# Altium integrated library TI Data Converters Digital to Analog Converter.IntLib: 1533 symbols (part 46 of 99)
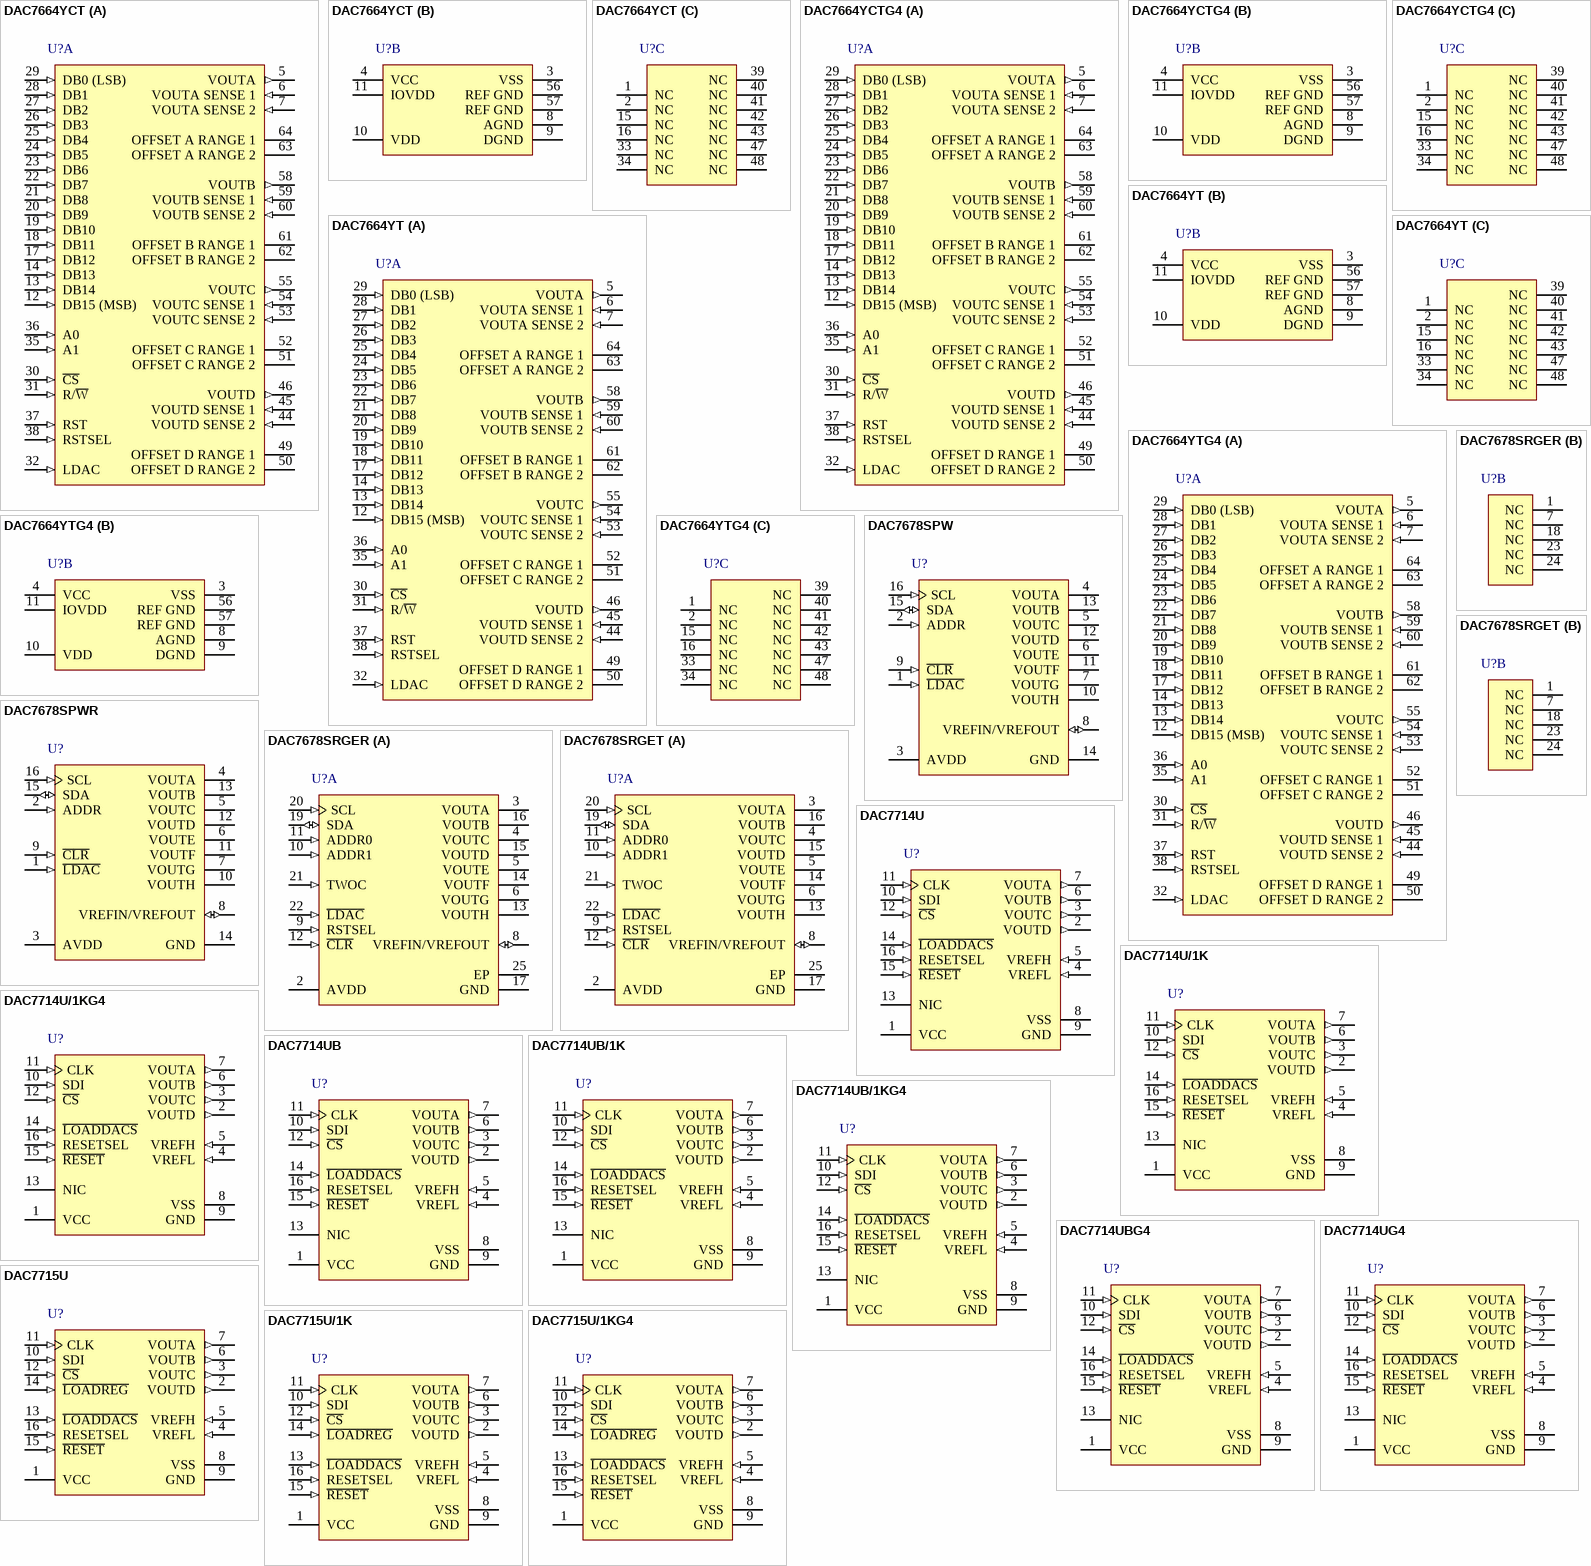
[diagram p118: symbols DAC7664YCT to DAC7715U/1KG4]

## DAC7715U
designator U?
Quad, Serial Input, 12-Bit, Voltage Output DAC, -40 to 85 degC, 16-pin SOIC (DW16), Green (RoHS & no Sb/Br); Manufacturer: Texas Instruments; PartNumber: DAC7715U; DAC Channels: 4; DNL(Max)(+/-LSB): 1; INL(Max)(+/-LSB): 2; Interface: Serial SPI; Power Consumption(Typ)(mW): 45; Resolution(Bits): 12; Settling Time(us): 8; SubFamily: Precision DAC (=<10MSPS); DatasheetVersion: SBAS140; PackageVersion: 4040000-2/G, 01/2011; PackageReference: DW16; PackageDescription: 16-Pin Plastic Small Outline, Body 10.30 x 7.50 mm, Pitch 1.27 mm; Supplier 1: Digi-Key; Supplier Part Number 1: DAC7715U-ND; Supplier 2: Farnell; Supplier Part Number 2: 1460223; Supplier 3: Mouser; Supplier Part Number 3: 595-DAC7715U; Eco-Plan: Green (RoHS & no Sb/Br); Mounting Technology: Surface Mount; Code_JEDEC: MS-013; ComponentLink1Description: Manufacturer URL; ComponentLink1URL: http://www.ti.com/; ComponentLink2Description: Datasheet; ComponentLink2URL: http://www.ti.com/general/docs/lit/getliterature.tsp?genericPartNumber=DAC7715&fileType=pdf; ComponentLink3Description: Package Specification; ComponentLink3URL: http://www.ti.com/litv/pdf/msoi003g
footprint TI-DW16_N (SOIC, 16-Leads, Body 10.3x7.5mm, Pitch 1.27mm, IPC Medium Density)
footprint TI-DW16_L (SOIC, 16-Leads, Body 10.3x7.5mm, Pitch 1.27mm, IPC High Density)
footprint TI-DW16_M (SOIC, 16-Leads, Body 10.3x7.5mm, Pitch 1.27mm, IPC Low Density)
pins: 1 VCC (power) "Positive Analog Supply Voltage, +15V nominal.", 2 VOUTD (out) "DAC D Voltage Output", 3 VOUTC (out) "DAC C Voltage Output", 4 VREFL (in) "Reference Input Voltage Low. Sets minimum output voltage for all DACs.", 5 VREFH (in) "Reference Input Voltage High. Sets maximum output voltage for all DACs.", 6 VOUTB (out) "DAC B Voltage Output", 7 VOUTA (out) "DAC A Voltage Output", 8 VSS (power) "Negative Analog Supply Voltage, 0V or -15V nominal.", 9 GND (power) "Ground", 10 SDI (in) "Serial Data Input", 11 CLK (in) "Serial Data Clock", 12 ~{CS} (in) "Chip Select Input", 13 ~{LOADDACS} (in) "All DAC registers become transparent when L\O\A\D\D\A\C\S\ is LOW. They are in the latched state when L\O\A\D\D\A\C\S\ is HIGH.", 14 ~{LOADREG} (in) "The selected input register becomes transparent when L\O\A\D\R\E\G\ is LOW. It is in the latched state when L\O\A\D\R\E\G\ is HIGH.", 15 ~{RESET} (in) "Asynchronous Reset Input. Sets DAC and input registers to either zero-scale (000H) or mid-scale (800H) when LOW. RESETSEL determines which code is active.", 16 RESETSEL (in) "When LOW, a LOW on R\E\S\E\T\ will cause the DAC and input registers to be set to code 000H. When RESETSEL is HIGH, a LOW on R\E\S\E\T\ will set the registers to code 800H."

## DAC7715U/1K
designator U?
Quad, Serial Input, 12-Bit, Voltage Output DAC, -40 to 85 degC, 16-pin SOIC (DW16), Green (RoHS & no Sb/Br); Manufacturer: Texas Instruments; PartNumber: DAC7715U/1K; DAC Channels: 4; DNL(Max)(+/-LSB): 1; INL(Max)(+/-LSB): 2; Interface: Serial SPI; Power Consumption(Typ)(mW): 45; Resolution(Bits): 12; Settling Time(us): 8; SubFamily: Precision DAC (=<10MSPS); DatasheetVersion: SBAS140; PackageVersion: 4040000-2/G, 01/2011; PackageReference: DW16; PackageDescription: 16-Pin Plastic Small Outline, Body 10.30 x 7.50 mm, Pitch 1.27 mm; Supplier 1: Digi-Key; Supplier Part Number 1: DAC7715U/1K-ND; Supplier 2: Mouser; Supplier Part Number 2: 595-DAC7715U/1K; Eco-Plan: Green (RoHS & no Sb/Br); Mounting Technology: Surface Mount; Code_JEDEC: MS-013; ComponentLink1Description: Manufacturer URL; ComponentLink1URL: http://www.ti.com/; ComponentLink2Description: Datasheet; ComponentLink2URL: http://www.ti.com/general/docs/lit/getliterature.tsp?genericPartNumber=DAC7715&fileType=pdf; ComponentLink3Description: Package Specification; ComponentLink3URL: http://www.ti.com/litv/pdf/msoi003g
footprint TI-DW16_N (SOIC, 16-Leads, Body 10.3x7.5mm, Pitch 1.27mm, IPC Medium Density)
footprint TI-DW16_L (SOIC, 16-Leads, Body 10.3x7.5mm, Pitch 1.27mm, IPC High Density)
footprint TI-DW16_M (SOIC, 16-Leads, Body 10.3x7.5mm, Pitch 1.27mm, IPC Low Density)
pins: 1 VCC (power) "Positive Analog Supply Voltage, +15V nominal.", 2 VOUTD (out) "DAC D Voltage Output", 3 VOUTC (out) "DAC C Voltage Output", 4 VREFL (in) "Reference Input Voltage Low. Sets minimum output voltage for all DACs.", 5 VREFH (in) "Reference Input Voltage High. Sets maximum output voltage for all DACs.", 6 VOUTB (out) "DAC B Voltage Output", 7 VOUTA (out) "DAC A Voltage Output", 8 VSS (power) "Negative Analog Supply Voltage, 0V or -15V nominal.", 9 GND (power) "Ground", 10 SDI (in) "Serial Data Input", 11 CLK (in) "Serial Data Clock", 12 ~{CS} (in) "Chip Select Input", 13 ~{LOADDACS} (in) "All DAC registers become transparent when L\O\A\D\D\A\C\S\ is LOW. They are in the latched state when L\O\A\D\D\A\C\S\ is HIGH.", 14 ~{LOADREG} (in) "The selected input register becomes transparent when L\O\A\D\R\E\G\ is LOW. It is in the latched state when L\O\A\D\R\E\G\ is HIGH.", 15 ~{RESET} (in) "Asynchronous Reset Input. Sets DAC and input registers to either zero-scale (000H) or mid-scale (800H) when LOW. RESETSEL determines which code is active.", 16 RESETSEL (in) "When LOW, a LOW on R\E\S\E\T\ will cause the DAC and input registers to be set to code 000H. When RESETSEL is HIGH, a LOW on R\E\S\E\T\ will set the registers to code 800H."

## DAC7715U/1KG4
designator U?
Quad, Serial Input, 12-Bit, Voltage Output DAC, -40 to 85 degC, 16-pin SOIC (DW16), Green (RoHS & no Sb/Br); Manufacturer: Texas Instruments; PartNumber: DAC7715U/1KG4; DAC Channels: 4; DNL(Max)(+/-LSB): 1; INL(Max)(+/-LSB): 2; Interface: Serial SPI; Power Consumption(Typ)(mW): 45; Resolution(Bits): 12; Settling Time(us): 8; SubFamily: Precision DAC (=<10MSPS); DatasheetVersion: SBAS140; PackageVersion: 4040000-2/G, 01/2011; PackageReference: DW16; PackageDescription: 16-Pin Plastic Small Outline, Body 10.30 x 7.50 mm, Pitch 1.27 mm; Supplier 1: Digi-Key; Supplier Part Number 1: DAC7715U/1KG4-ND; Supplier 2: Mouser; Supplier Part Number 2: 595-DAC7715U/1KG4; Eco-Plan: Green (RoHS & no Sb/Br); Mounting Technology: Surface Mount; Code_JEDEC: MS-013; ComponentLink1Description: Manufacturer URL; ComponentLink1URL: http://www.ti.com/; ComponentLink2Description: Datasheet; ComponentLink2URL: http://www.ti.com/general/docs/lit/getliterature.tsp?genericPartNumber=DAC7715&fileType=pdf; ComponentLink3Description: Package Specification; ComponentLink3URL: http://www.ti.com/litv/pdf/msoi003g
footprint TI-DW16_N (SOIC, 16-Leads, Body 10.3x7.5mm, Pitch 1.27mm, IPC Medium Density)
footprint TI-DW16_L (SOIC, 16-Leads, Body 10.3x7.5mm, Pitch 1.27mm, IPC High Density)
footprint TI-DW16_M (SOIC, 16-Leads, Body 10.3x7.5mm, Pitch 1.27mm, IPC Low Density)
pins: 1 VCC (power) "Positive Analog Supply Voltage, +15V nominal.", 2 VOUTD (out) "DAC D Voltage Output", 3 VOUTC (out) "DAC C Voltage Output", 4 VREFL (in) "Reference Input Voltage Low. Sets minimum output voltage for all DACs.", 5 VREFH (in) "Reference Input Voltage High. Sets maximum output voltage for all DACs.", 6 VOUTB (out) "DAC B Voltage Output", 7 VOUTA (out) "DAC A Voltage Output", 8 VSS (power) "Negative Analog Supply Voltage, 0V or -15V nominal.", 9 GND (power) "Ground", 10 SDI (in) "Serial Data Input", 11 CLK (in) "Serial Data Clock", 12 ~{CS} (in) "Chip Select Input", 13 ~{LOADDACS} (in) "All DAC registers become transparent when L\O\A\D\D\A\C\S\ is LOW. They are in the latched state when L\O\A\D\D\A\C\S\ is HIGH.", 14 ~{LOADREG} (in) "The selected input register becomes transparent when L\O\A\D\R\E\G\ is LOW. It is in the latched state when L\O\A\D\R\E\G\ is HIGH.", 15 ~{RESET} (in) "Asynchronous Reset Input. Sets DAC and input registers to either zero-scale (000H) or mid-scale (800H) when LOW. RESETSEL determines which code is active.", 16 RESETSEL (in) "When LOW, a LOW on R\E\S\E\T\ will cause the DAC and input registers to be set to code 000H. When RESETSEL is HIGH, a LOW on R\E\S\E\T\ will set the registers to code 800H."

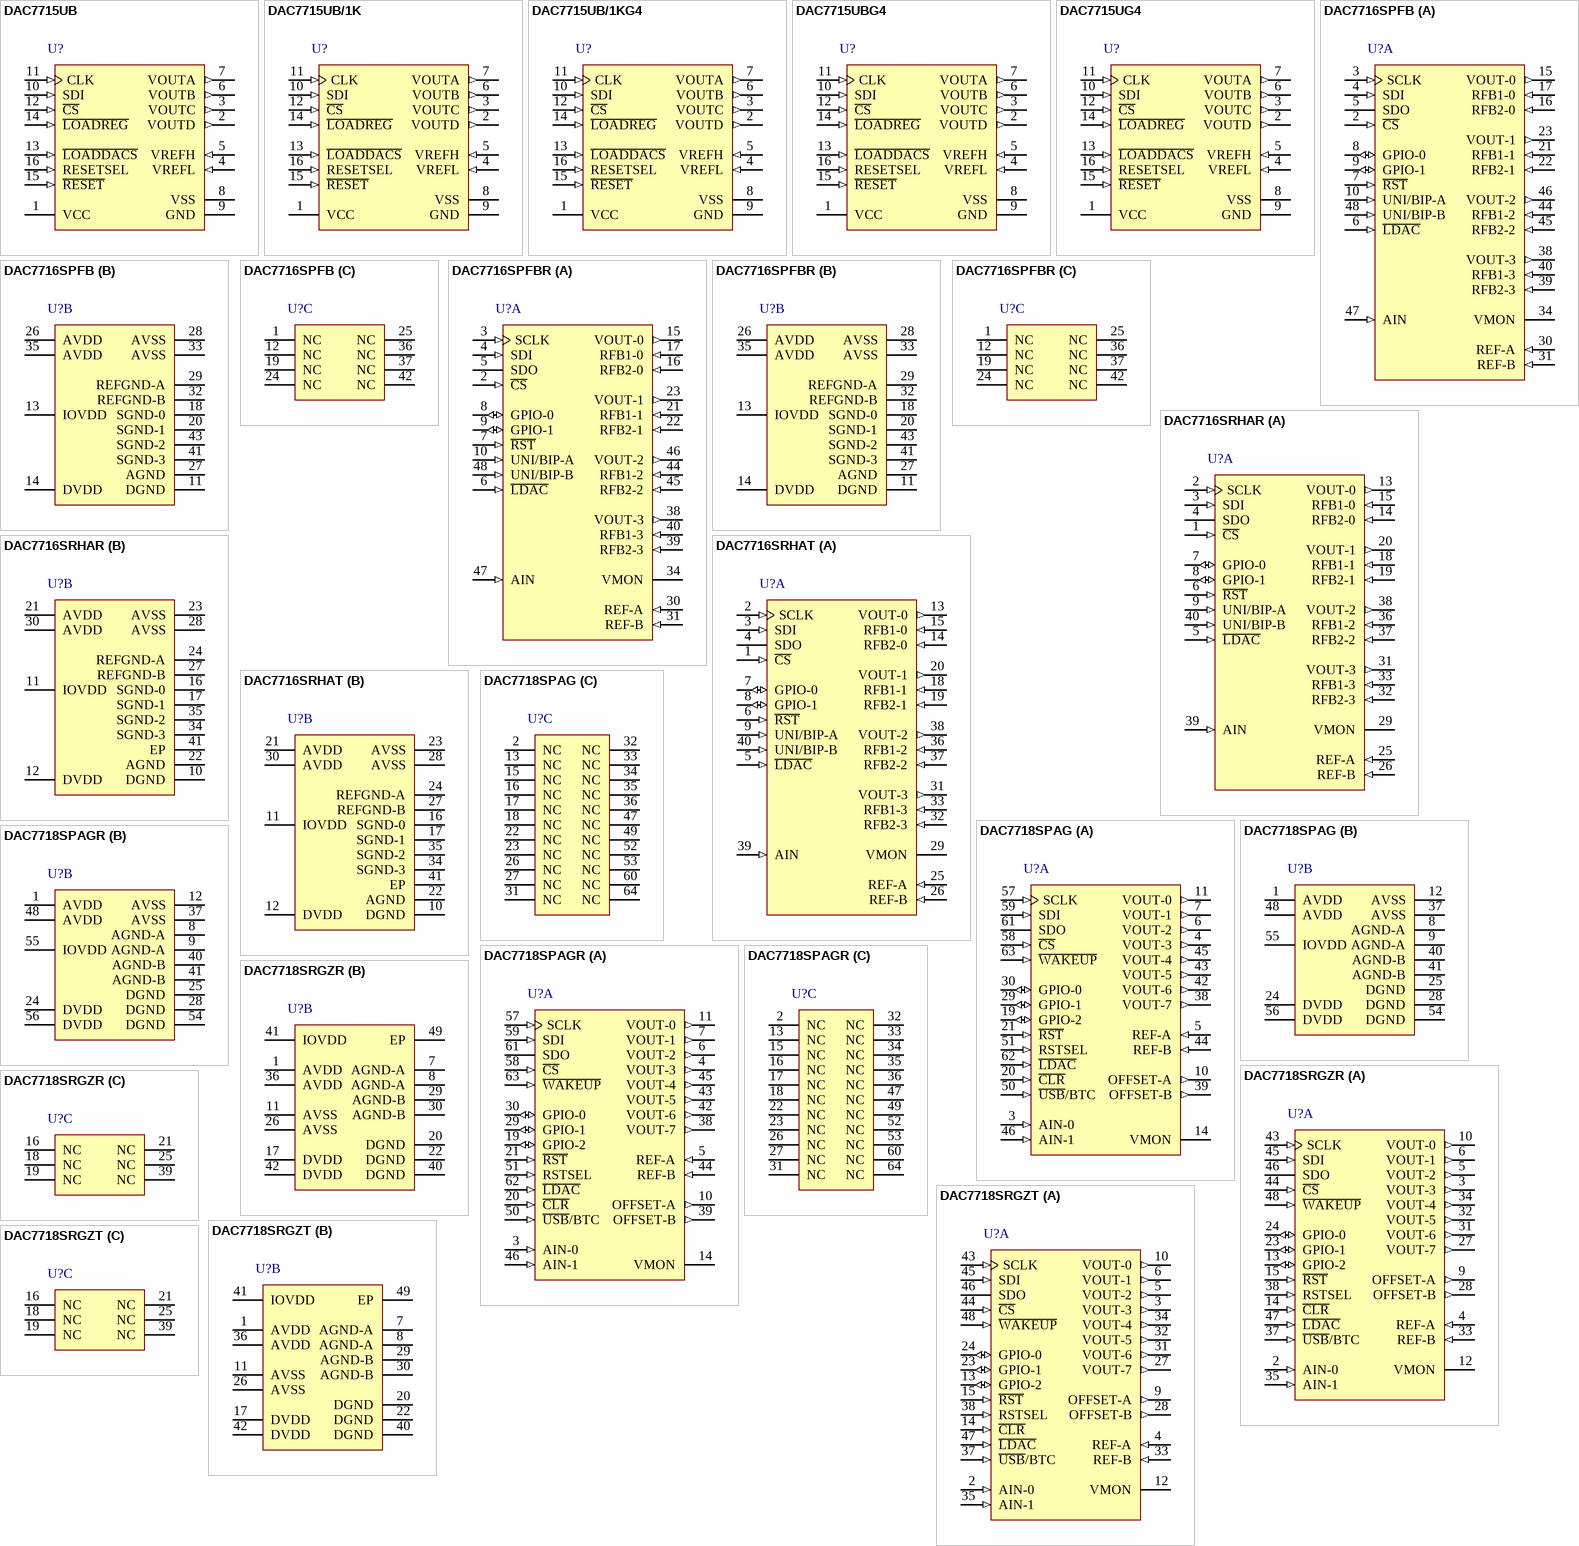
[diagram p35: symbols DAC7715UB to DAC7718SRGZT]

## DAC7715UB
designator U?
Quad, Serial Input, 12-Bit, Voltage Output DAC, -40 to 85 degC, 16-pin SOIC (DW16), Green (RoHS & no Sb/Br); Manufacturer: Texas Instruments; PartNumber: DAC7715UB; DAC Channels: 4; DNL(Max)(+/-LSB): 1; Interface: Serial SPI; Power Consumption(Typ)(mW): 45; Resolution(Bits): 12; Settling Time(us): 8; SubFamily: Precision DAC (=<10MSPS); DatasheetVersion: SBAS140; PackageVersion: 4040000-2/G, 01/2011; PackageReference: DW16; PackageDescription: 16-Pin Plastic Small Outline, Body 10.30 x 7.50 mm, Pitch 1.27 mm; Supplier 1: Digi-Key; Supplier Part Number 1: DAC7715UB-ND; Supplier 2: Farnell; Supplier Part Number 2: 1212274; Supplier 3: Mouser; Supplier Part Number 3: 595-DAC7715UB; Eco-Plan: Green (RoHS & no Sb/Br); INL(Max)(+/-LSB): 1; Mounting Technology: Surface Mount; Code_JEDEC: MS-013; ComponentLink1Description: Manufacturer URL; ComponentLink1URL: http://www.ti.com/; ComponentLink2Description: Datasheet; ComponentLink2URL: http://www.ti.com/general/docs/lit/getliterature.tsp?genericPartNumber=DAC7715&fileType=pdf; ComponentLink3Description: Package Specification; ComponentLink3URL: http://www.ti.com/litv/pdf/msoi003g
footprint TI-DW16_N (SOIC, 16-Leads, Body 10.3x7.5mm, Pitch 1.27mm, IPC Medium Density)
footprint TI-DW16_L (SOIC, 16-Leads, Body 10.3x7.5mm, Pitch 1.27mm, IPC High Density)
footprint TI-DW16_M (SOIC, 16-Leads, Body 10.3x7.5mm, Pitch 1.27mm, IPC Low Density)
pins: 1 VCC (power) "Positive Analog Supply Voltage, +15V nominal.", 2 VOUTD (out) "DAC D Voltage Output", 3 VOUTC (out) "DAC C Voltage Output", 4 VREFL (in) "Reference Input Voltage Low. Sets minimum output voltage for all DACs.", 5 VREFH (in) "Reference Input Voltage High. Sets maximum output voltage for all DACs.", 6 VOUTB (out) "DAC B Voltage Output", 7 VOUTA (out) "DAC A Voltage Output", 8 VSS (power) "Negative Analog Supply Voltage, 0V or -15V nominal.", 9 GND (power) "Ground", 10 SDI (in) "Serial Data Input", 11 CLK (in) "Serial Data Clock", 12 ~{CS} (in) "Chip Select Input", 13 ~{LOADDACS} (in) "All DAC registers become transparent when L\O\A\D\D\A\C\S\ is LOW. They are in the latched state when L\O\A\D\D\A\C\S\ is HIGH.", 14 ~{LOADREG} (in) "The selected input register becomes transparent when L\O\A\D\R\E\G\ is LOW. It is in the latched state when L\O\A\D\R\E\G\ is HIGH.", 15 ~{RESET} (in) "Asynchronous Reset Input. Sets DAC and input registers to either zero-scale (000H) or mid-scale (800H) when LOW. RESETSEL determines which code is active.", 16 RESETSEL (in) "When LOW, a LOW on R\E\S\E\T\ will cause the DAC and input registers to be set to code 000H. When RESETSEL is HIGH, a LOW on R\E\S\E\T\ will set the registers to code 800H."

## DAC7715UB/1K
designator U?
Quad, Serial Input, 12-Bit, Voltage Output DAC, -40 to 85 degC, 16-pin SOIC (DW16), Green (RoHS & no Sb/Br); Manufacturer: Texas Instruments; PartNumber: DAC7715UB/1K; DAC Channels: 4; DNL(Max)(+/-LSB): 1; Interface: Serial SPI; Power Consumption(Typ)(mW): 45; Resolution(Bits): 12; Settling Time(us): 8; SubFamily: Precision DAC (=<10MSPS); DatasheetVersion: SBAS140; PackageVersion: 4040000-2/G, 01/2011; PackageReference: DW16; PackageDescription: 16-Pin Plastic Small Outline, Body 10.30 x 7.50 mm, Pitch 1.27 mm; Supplier 1: Digi-Key; Supplier Part Number 1: DAC7715UB/1K-ND; Supplier 2: Mouser; Supplier Part Number 2: 595-DAC7715UB/1K; Eco-Plan: Green (RoHS & no Sb/Br); INL(Max)(+/-LSB): 1; Mounting Technology: Surface Mount; Code_JEDEC: MS-013; ComponentLink1Description: Manufacturer URL; ComponentLink1URL: http://www.ti.com/; ComponentLink2Description: Datasheet; ComponentLink2URL: http://www.ti.com/general/docs/lit/getliterature.tsp?genericPartNumber=DAC7715&fileType=pdf; ComponentLink3Description: Package Specification; ComponentLink3URL: http://www.ti.com/litv/pdf/msoi003g
footprint TI-DW16_N (SOIC, 16-Leads, Body 10.3x7.5mm, Pitch 1.27mm, IPC Medium Density)
footprint TI-DW16_L (SOIC, 16-Leads, Body 10.3x7.5mm, Pitch 1.27mm, IPC High Density)
footprint TI-DW16_M (SOIC, 16-Leads, Body 10.3x7.5mm, Pitch 1.27mm, IPC Low Density)
pins: 1 VCC (power) "Positive Analog Supply Voltage, +15V nominal.", 2 VOUTD (out) "DAC D Voltage Output", 3 VOUTC (out) "DAC C Voltage Output", 4 VREFL (in) "Reference Input Voltage Low. Sets minimum output voltage for all DACs.", 5 VREFH (in) "Reference Input Voltage High. Sets maximum output voltage for all DACs.", 6 VOUTB (out) "DAC B Voltage Output", 7 VOUTA (out) "DAC A Voltage Output", 8 VSS (power) "Negative Analog Supply Voltage, 0V or -15V nominal.", 9 GND (power) "Ground", 10 SDI (in) "Serial Data Input", 11 CLK (in) "Serial Data Clock", 12 ~{CS} (in) "Chip Select Input", 13 ~{LOADDACS} (in) "All DAC registers become transparent when L\O\A\D\D\A\C\S\ is LOW. They are in the latched state when L\O\A\D\D\A\C\S\ is HIGH.", 14 ~{LOADREG} (in) "The selected input register becomes transparent when L\O\A\D\R\E\G\ is LOW. It is in the latched state when L\O\A\D\R\E\G\ is HIGH.", 15 ~{RESET} (in) "Asynchronous Reset Input. Sets DAC and input registers to either zero-scale (000H) or mid-scale (800H) when LOW. RESETSEL determines which code is active.", 16 RESETSEL (in) "When LOW, a LOW on R\E\S\E\T\ will cause the DAC and input registers to be set to code 000H. When RESETSEL is HIGH, a LOW on R\E\S\E\T\ will set the registers to code 800H."

## DAC7715UB/1KG4
designator U?
Quad, Serial Input, 12-Bit, Voltage Output DAC, -40 to 85 degC, 16-pin SOIC (DW16), Green (RoHS & no Sb/Br); Manufacturer: Texas Instruments; PartNumber: DAC7715UB/1KG4; DAC Channels: 4; DNL(Max)(+/-LSB): 1; Interface: Serial SPI; Power Consumption(Typ)(mW): 45; Resolution(Bits): 12; Settling Time(us): 8; SubFamily: Precision DAC (=<10MSPS); DatasheetVersion: SBAS140; PackageVersion: 4040000-2/G, 01/2011; PackageReference: DW16; PackageDescription: 16-Pin Plastic Small Outline, Body 10.30 x 7.50 mm, Pitch 1.27 mm; Supplier 1: Digi-Key; Supplier Part Number 1: DAC7715UB/1KG4-ND; Supplier 2: Mouser; Supplier Part Number 2: 595-DAC7715UB/1KG4; Eco-Plan: Green (RoHS & no Sb/Br); INL(Max)(+/-LSB): 1; Mounting Technology: Surface Mount; Code_JEDEC: MS-013; ComponentLink1Description: Manufacturer URL; ComponentLink1URL: http://www.ti.com/; ComponentLink2Description: Datasheet; ComponentLink2URL: http://www.ti.com/general/docs/lit/getliterature.tsp?genericPartNumber=DAC7715&fileType=pdf; ComponentLink3Description: Package Specification; ComponentLink3URL: http://www.ti.com/litv/pdf/msoi003g
footprint TI-DW16_N (SOIC, 16-Leads, Body 10.3x7.5mm, Pitch 1.27mm, IPC Medium Density)
footprint TI-DW16_L (SOIC, 16-Leads, Body 10.3x7.5mm, Pitch 1.27mm, IPC High Density)
footprint TI-DW16_M (SOIC, 16-Leads, Body 10.3x7.5mm, Pitch 1.27mm, IPC Low Density)
pins: 1 VCC (power) "Positive Analog Supply Voltage, +15V nominal.", 2 VOUTD (out) "DAC D Voltage Output", 3 VOUTC (out) "DAC C Voltage Output", 4 VREFL (in) "Reference Input Voltage Low. Sets minimum output voltage for all DACs.", 5 VREFH (in) "Reference Input Voltage High. Sets maximum output voltage for all DACs.", 6 VOUTB (out) "DAC B Voltage Output", 7 VOUTA (out) "DAC A Voltage Output", 8 VSS (power) "Negative Analog Supply Voltage, 0V or -15V nominal.", 9 GND (power) "Ground", 10 SDI (in) "Serial Data Input", 11 CLK (in) "Serial Data Clock", 12 ~{CS} (in) "Chip Select Input", 13 ~{LOADDACS} (in) "All DAC registers become transparent when L\O\A\D\D\A\C\S\ is LOW. They are in the latched state when L\O\A\D\D\A\C\S\ is HIGH.", 14 ~{LOADREG} (in) "The selected input register becomes transparent when L\O\A\D\R\E\G\ is LOW. It is in the latched state when L\O\A\D\R\E\G\ is HIGH.", 15 ~{RESET} (in) "Asynchronous Reset Input. Sets DAC and input registers to either zero-scale (000H) or mid-scale (800H) when LOW. RESETSEL determines which code is active.", 16 RESETSEL (in) "When LOW, a LOW on R\E\S\E\T\ will cause the DAC and input registers to be set to code 000H. When RESETSEL is HIGH, a LOW on R\E\S\E\T\ will set the registers to code 800H."

## DAC7715UBG4
designator U?
Quad, Serial Input, 12-Bit, Voltage Output DAC, -40 to 85 degC, 16-pin SOIC (DW16), Green (RoHS & no Sb/Br); Manufacturer: Texas Instruments; PartNumber: DAC7715UBG4; DAC Channels: 4; DNL(Max)(+/-LSB): 1; Interface: Serial SPI; Power Consumption(Typ)(mW): 45; Resolution(Bits): 12; Settling Time(us): 8; SubFamily: Precision DAC (=<10MSPS); DatasheetVersion: SBAS140; PackageVersion: 4040000-2/G, 01/2011; PackageReference: DW16; PackageDescription: 16-Pin Plastic Small Outline, Body 10.30 x 7.50 mm, Pitch 1.27 mm; Supplier 1: Digi-Key; Supplier Part Number 1: DAC7715UBG4-ND; Supplier 2: Mouser; Supplier Part Number 2: 595-DAC7715UBG4; Eco-Plan: Green (RoHS & no Sb/Br); INL(Max)(+/-LSB): 1; Mounting Technology: Surface Mount; Code_JEDEC: MS-013; ComponentLink1Description: Manufacturer URL; ComponentLink1URL: http://www.ti.com/; ComponentLink2Description: Datasheet; ComponentLink2URL: http://www.ti.com/general/docs/lit/getliterature.tsp?genericPartNumber=DAC7715&fileType=pdf; ComponentLink3Description: Package Specification; ComponentLink3URL: http://www.ti.com/litv/pdf/msoi003g
footprint TI-DW16_N (SOIC, 16-Leads, Body 10.3x7.5mm, Pitch 1.27mm, IPC Medium Density)
footprint TI-DW16_L (SOIC, 16-Leads, Body 10.3x7.5mm, Pitch 1.27mm, IPC High Density)
footprint TI-DW16_M (SOIC, 16-Leads, Body 10.3x7.5mm, Pitch 1.27mm, IPC Low Density)
pins: 1 VCC (power) "Positive Analog Supply Voltage, +15V nominal.", 2 VOUTD (out) "DAC D Voltage Output", 3 VOUTC (out) "DAC C Voltage Output", 4 VREFL (in) "Reference Input Voltage Low. Sets minimum output voltage for all DACs.", 5 VREFH (in) "Reference Input Voltage High. Sets maximum output voltage for all DACs.", 6 VOUTB (out) "DAC B Voltage Output", 7 VOUTA (out) "DAC A Voltage Output", 8 VSS (power) "Negative Analog Supply Voltage, 0V or -15V nominal.", 9 GND (power) "Ground", 10 SDI (in) "Serial Data Input", 11 CLK (in) "Serial Data Clock", 12 ~{CS} (in) "Chip Select Input", 13 ~{LOADDACS} (in) "All DAC registers become transparent when L\O\A\D\D\A\C\S\ is LOW. They are in the latched state when L\O\A\D\D\A\C\S\ is HIGH.", 14 ~{LOADREG} (in) "The selected input register becomes transparent when L\O\A\D\R\E\G\ is LOW. It is in the latched state when L\O\A\D\R\E\G\ is HIGH.", 15 ~{RESET} (in) "Asynchronous Reset Input. Sets DAC and input registers to either zero-scale (000H) or mid-scale (800H) when LOW. RESETSEL determines which code is active.", 16 RESETSEL (in) "When LOW, a LOW on R\E\S\E\T\ will cause the DAC and input registers to be set to code 000H. When RESETSEL is HIGH, a LOW on R\E\S\E\T\ will set the registers to code 800H."

## DAC7715UG4
designator U?
Quad, Serial Input, 12-Bit, Voltage Output DAC, -40 to 85 degC, 16-pin SOIC (DW16), Green (RoHS & no Sb/Br); Manufacturer: Texas Instruments; PartNumber: DAC7715UG4; DAC Channels: 4; DNL(Max)(+/-LSB): 1; INL(Max)(+/-LSB): 2; Interface: Serial SPI; Power Consumption(Typ)(mW): 45; Resolution(Bits): 12; Settling Time(us): 8; SubFamily: Precision DAC (=<10MSPS); DatasheetVersion: SBAS140; PackageVersion: 4040000-2/G, 01/2011; PackageReference: DW16; PackageDescription: 16-Pin Plastic Small Outline, Body 10.30 x 7.50 mm, Pitch 1.27 mm; Supplier 1: Digi-Key; Supplier Part Number 1: DAC7715UG4-ND; Supplier 2: Mouser; Supplier Part Number 2: 595-DAC7715UG4; Eco-Plan: Green (RoHS & no Sb/Br); Mounting Technology: Surface Mount; Code_JEDEC: MS-013; ComponentLink1Description: Manufacturer URL; ComponentLink1URL: http://www.ti.com/; ComponentLink2Description: Datasheet; ComponentLink2URL: http://www.ti.com/general/docs/lit/getliterature.tsp?genericPartNumber=DAC7715&fileType=pdf; ComponentLink3Description: Package Specification; ComponentLink3URL: http://www.ti.com/litv/pdf/msoi003g
footprint TI-DW16_N (SOIC, 16-Leads, Body 10.3x7.5mm, Pitch 1.27mm, IPC Medium Density)
footprint TI-DW16_L (SOIC, 16-Leads, Body 10.3x7.5mm, Pitch 1.27mm, IPC High Density)
footprint TI-DW16_M (SOIC, 16-Leads, Body 10.3x7.5mm, Pitch 1.27mm, IPC Low Density)
pins: 1 VCC (power) "Positive Analog Supply Voltage, +15V nominal.", 2 VOUTD (out) "DAC D Voltage Output", 3 VOUTC (out) "DAC C Voltage Output", 4 VREFL (in) "Reference Input Voltage Low. Sets minimum output voltage for all DACs.", 5 VREFH (in) "Reference Input Voltage High. Sets maximum output voltage for all DACs.", 6 VOUTB (out) "DAC B Voltage Output", 7 VOUTA (out) "DAC A Voltage Output", 8 VSS (power) "Negative Analog Supply Voltage, 0V or -15V nominal.", 9 GND (power) "Ground", 10 SDI (in) "Serial Data Input", 11 CLK (in) "Serial Data Clock", 12 ~{CS} (in) "Chip Select Input", 13 ~{LOADDACS} (in) "All DAC registers become transparent when L\O\A\D\D\A\C\S\ is LOW. They are in the latched state when L\O\A\D\D\A\C\S\ is HIGH.", 14 ~{LOADREG} (in) "The selected input register becomes transparent when L\O\A\D\R\E\G\ is LOW. It is in the latched state when L\O\A\D\R\E\G\ is HIGH.", 15 ~{RESET} (in) "Asynchronous Reset Input. Sets DAC and input registers to either zero-scale (000H) or mid-scale (800H) when LOW. RESETSEL determines which code is active.", 16 RESETSEL (in) "When LOW, a LOW on R\E\S\E\T\ will cause the DAC and input registers to be set to code 000H. When RESETSEL is HIGH, a LOW on R\E\S\E\T\ will set the registers to code 800H."

## DAC7716SPFB
designator U?
Quad 12-Bit High Accuracy +/- 16.5 V Output Serial Input DAC, -40 to 105 degC, 48-pin QFP (PFB48), Green (RoHS & no Sb/Br); Manufacturer: Texas Instruments; PartNumber: DAC7716SPFB; DAC Channels: 4; DNL(Max)(+/-LSB): 1; Interface: Serial SPI; Power Consumption(Typ)(mW): 290; Resolution(Bits): 12; Settling Time(us): 6; SubFamily: Precision DAC (=<10MSPS); DatasheetVersion: SBAS463A; PackageVersion: 4073176/B, 10/1996; PackageReference: PFB48; PackageDescription: 48-Pin Plastic Flat Pack, Body 7 x 7 mm, Pitch 0.5 mm; Supplier 1: Digi-Key; Supplier Part Number 1: 296-25113-ND; Supplier 2: Mouser; Supplier Part Number 2: 595-DAC7716SPFB; Eco-Plan: Green (RoHS & no Sb/Br); INL(Max)(+/-LSB): 1; Mounting Technology: Surface Mount; Code_JEDEC: MS-026; ComponentLink1Description: Manufacturer URL; ComponentLink1URL: http://www.ti.com/; ComponentLink2Description: Datasheet; ComponentLink2URL: http://www.ti.com/general/docs/lit/getliterature.tsp?genericPartNumber=DAC7716&fileType=pdf; ComponentLink3Description: Package Specification; ComponentLink3URL: http://www.ti.com/lit/ml/mtqf019a/mtqf019a.pdf
footprint TI-PFB48_N (QFP, 48-Leads, Body 7x7mm, Pitch 0.5mm, IPC Medium Density)
footprint TI-PFB48_L (QFP, 48-Leads, Body 7x7mm, Pitch 0.5mm, IPC High Density)
footprint TI-PFB48_M (QFP, 48-Leads, Body 7x7mm, Pitch 0.5mm, IPC Low Density)
part A pins: 2 ~{CS} (in) "SPI bus chip select input (active low). Data are not clocked into the SPI shift register unless C\S\ is low. When C\S\ is high, SDO is in a high-impedance state.", 3 SCLK (in) "SPI bus clock", 4 SDI (in) "SPI bus input data", 5 SDO (hiz) "SPI output data", 6 ~{LDAC} (in) "Load DAC latch control input (active low). When L\D\A\C\ is low, the DAC latch is transparent and the contents of the Input Data Register are transferred to it. The DAC output changes to the corresponding level (See Datasheet)", 7 ~{RST} (in) "Reset input (active low). Logic low on this pin resets the input registers and DACs to the values defined by the UNI/BIP pins, and sets the Gain Register and Zero Register to default values.", 8 GPIO-0 (io) "General-purpose digital input/output 0. This pin is a bidirectional, digital input/output, and has an open-drain output. A 10kO pull-up resistor to IOVDD is needed when this pin is used as an output. See the GPIO Pins (See Datasheet)", 9 GPIO-1 (io) "General-purpose digital input/output 1. This pin is a bidirectional, digital input/output, and has an open-drain output. A 10kO pull-up resistor to IOVDD is needed when this pin is used as an output. See the GPIO Pins (See Datasheet)", 10 UNI/BIP-A (in) "Output mode selection of group A (DAC-0 and DAC-1). When UNI/BIP-A is tied to IOVDD, group A is in unipolar output mode; when tied to DGND, group A is in bipolar output mode. The input data written to the DAC are straight (See Datasheet)", 15 VOUT-0 (out) "DAC-0 output", 16 RFB2-0 (in) "DAC-0 RFB2 feedback", 17 RFB1-0 (in) "DAC-0 RFB1 feedback", 21 RFB1-1 (in) "DAC-1 RFB1 feedback", 22 RFB2-1 (in) "DAC-1 RFB2 feedback", 23 VOUT-1 (out) "DAC-1 output", 30 REF-A (in) "Group A (DAC-0, DAC-1) reference input", 31 REF-B (in) "Group B (DAC-2, DAC-3) reference input", 34 VMON (hiz) "Analog monitor output. This pin is either in Hi-Z status, or connected to one of the four DAC outputs or AIN, depending on the content of the Monitor Register.", 38 VOUT-3 (out) "DAC-3 output", 39 RFB2-3 (in) "DAC-3 RFB2 feedback", 40 RFB1-3 (in) "DAC-3 RFB1 feedback", 44 RFB1-2 (in) "DAC-2 RFB1 feedback", 45 RFB2-2 (in) "DAC-2 RFB2 feedback", 46 VOUT-2 (out) "DAC-2 output", 47 AIN (in) "Auxiliary analog input. Connected to the analog monitor mux.", 48 UNI/BIP-B (in) "Output mode selection of group B (DAC-2 and DAC-3). When UNI/BIP-A is tied to IOVDD, group B is in unipolar output mode; when tied to DGND, group B is in bipolar output mode. The input data written to the DAC are straight (See Datasheet)"
part B pins: 11 DGND (power) "Digital ground", 13 IOVDD (power) "Interface power", 14 DVDD (power) "Digital power", 18 SGND-0 (power) "DAC-0 signal ground. Connected to REFGND-A.", 20 SGND-1 (power) "DAC-1 signal ground. Connected to REFGND-A.", 26 AVDD (power) "Positive analog power supply", 27 AGND (power) "Analog ground", 28 AVSS (power) "Negative analog power supply", 29 REFGND-A (power) "Reference REF-A ground. Connect to AGND.", 32 REFGND-B (power) "Reference REF-B ground. Connect to AGND.", 33 AVSS (power) "Negative analog power supply", 35 AVDD (power) "Positive analog power supply", 41 SGND-3 (power) "DAC-3 signal ground. Connected to REFGND-B.", 43 SGND-2 (power) "DAC-2 signal ground. Connected to REFGND-B."
part C pins: 1 NC "Not connected", 12 NC "Not connected", 19 NC "Not connected", 24 NC "Not connected", 25 NC "Not connected", 36 NC "Not connected", 37 NC "Not connected", 42 NC "Not connected"

## DAC7716SPFBR
designator U?
Quad 12-Bit High Accuracy +/- 16.5 V Output Serial Input DAC, -40 to 105 degC, 48-pin QFP (PFB48), Green (RoHS & no Sb/Br); Manufacturer: Texas Instruments; PartNumber: DAC7716SPFBR; DAC Channels: 4; DNL(Max)(+/-LSB): 1; Interface: Serial SPI; Power Consumption(Typ)(mW): 290; Resolution(Bits): 12; Settling Time(us): 6; SubFamily: Precision DAC (=<10MSPS); DatasheetVersion: SBAS463A; PackageVersion: 4073176/B, 10/1996; PackageReference: PFB48; PackageDescription: 48-Pin Plastic Flat Pack, Body 7 x 7 mm, Pitch 0.5 mm; Supplier 1: Digi-Key; Supplier Part Number 1: DAC7716SPFBR-ND; Supplier 2: Newark; Supplier Part Number 2: 50R7649; Supplier 3: Mouser; Supplier Part Number 3: 595-DAC7716SPFBR; Eco-Plan: Green (RoHS & no Sb/Br); INL(Max)(+/-LSB): 1; Mounting Technology: Surface Mount; Code_JEDEC: MS-026; ComponentLink1Description: Manufacturer URL; ComponentLink1URL: http://www.ti.com/; ComponentLink2Description: Datasheet; ComponentLink2URL: http://www.ti.com/general/docs/lit/getliterature.tsp?genericPartNumber=DAC7716&fileType=pdf; ComponentLink3Description: Package Specification; ComponentLink3URL: http://www.ti.com/lit/ml/mtqf019a/mtqf019a.pdf
footprint TI-PFB48_N (QFP, 48-Leads, Body 7x7mm, Pitch 0.5mm, IPC Medium Density)
footprint TI-PFB48_L (QFP, 48-Leads, Body 7x7mm, Pitch 0.5mm, IPC High Density)
footprint TI-PFB48_M (QFP, 48-Leads, Body 7x7mm, Pitch 0.5mm, IPC Low Density)
part A pins: 2 ~{CS} (in) "SPI bus chip select input (active low). Data are not clocked into the SPI shift register unless C\S\ is low. When C\S\ is high, SDO is in a high-impedance state.", 3 SCLK (in) "SPI bus clock", 4 SDI (in) "SPI bus input data", 5 SDO (hiz) "SPI output data", 6 ~{LDAC} (in) "Load DAC latch control input (active low). When L\D\A\C\ is low, the DAC latch is transparent and the contents of the Input Data Register are transferred to it. The DAC output changes to the corresponding level (See Datasheet)", 7 ~{RST} (in) "Reset input (active low). Logic low on this pin resets the input registers and DACs to the values defined by the UNI/BIP pins, and sets the Gain Register and Zero Register to default values.", 8 GPIO-0 (io) "General-purpose digital input/output 0. This pin is a bidirectional, digital input/output, and has an open-drain output. A 10kO pull-up resistor to IOVDD is needed when this pin is used as an output. See the GPIO Pins (See Datasheet)", 9 GPIO-1 (io) "General-purpose digital input/output 1. This pin is a bidirectional, digital input/output, and has an open-drain output. A 10kO pull-up resistor to IOVDD is needed when this pin is used as an output. See the GPIO Pins (See Datasheet)", 10 UNI/BIP-A (in) "Output mode selection of group A (DAC-0 and DAC-1). When UNI/BIP-A is tied to IOVDD, group A is in unipolar output mode; when tied to DGND, group A is in bipolar output mode. The input data written to the DAC are straight (See Datasheet)", 15 VOUT-0 (out) "DAC-0 output", 16 RFB2-0 (in) "DAC-0 RFB2 feedback", 17 RFB1-0 (in) "DAC-0 RFB1 feedback", 21 RFB1-1 (in) "DAC-1 RFB1 feedback", 22 RFB2-1 (in) "DAC-1 RFB2 feedback", 23 VOUT-1 (out) "DAC-1 output", 30 REF-A (in) "Group A (DAC-0, DAC-1) reference input", 31 REF-B (in) "Group B (DAC-2, DAC-3) reference input", 34 VMON (hiz) "Analog monitor output. This pin is either in Hi-Z status, or connected to one of the four DAC outputs or AIN, depending on the content of the Monitor Register.", 38 VOUT-3 (out) "DAC-3 output", 39 RFB2-3 (in) "DAC-3 RFB2 feedback", 40 RFB1-3 (in) "DAC-3 RFB1 feedback", 44 RFB1-2 (in) "DAC-2 RFB1 feedback", 45 RFB2-2 (in) "DAC-2 RFB2 feedback", 46 VOUT-2 (out) "DAC-2 output", 47 AIN (in) "Auxiliary analog input. Connected to the analog monitor mux.", 48 UNI/BIP-B (in) "Output mode selection of group B (DAC-2 and DAC-3). When UNI/BIP-A is tied to IOVDD, group B is in unipolar output mode; when tied to DGND, group B is in bipolar output mode. The input data written to the DAC are straight (See Datasheet)"
part B pins: 11 DGND (power) "Digital ground", 13 IOVDD (power) "Interface power", 14 DVDD (power) "Digital power", 18 SGND-0 (power) "DAC-0 signal ground. Connected to REFGND-A.", 20 SGND-1 (power) "DAC-1 signal ground. Connected to REFGND-A.", 26 AVDD (power) "Positive analog power supply", 27 AGND (power) "Analog ground", 28 AVSS (power) "Negative analog power supply", 29 REFGND-A (power) "Reference REF-A ground. Connect to AGND.", 32 REFGND-B (power) "Reference REF-B ground. Connect to AGND.", 33 AVSS (power) "Negative analog power supply", 35 AVDD (power) "Positive analog power supply", 41 SGND-3 (power) "DAC-3 signal ground. Connected to REFGND-B.", 43 SGND-2 (power) "DAC-2 signal ground. Connected to REFGND-B."
part C pins: 1 NC "Not connected", 12 NC "Not connected", 19 NC "Not connected", 24 NC "Not connected", 25 NC "Not connected", 36 NC "Not connected", 37 NC "Not connected", 42 NC "Not connected"

## DAC7716SRHAR
designator U?
Quad 12-Bit High Accuracy +/- 16.5 V Output Serial Input DAC, -40 to 105 degC, 40-pin QFN (RHA40), Green (RoHS & no Sb/Br); Manufacturer: Texas Instruments; PartNumber: DAC7716SRHAR; DAC Channels: 4; DNL(Max)(+/-LSB): 1; Interface: Serial SPI; Power Consumption(Typ)(mW): 290; Resolution(Bits): 12; Settling Time(us): 6; SubFamily: Precision DAC (=<10MSPS); DatasheetVersion: SBAS463A; PackageVersion: 4204276/E, 06/2011; PackageReference: RHA40-4500X4500TP; PackageDescription: 40-Pin Plastic Quad Flatpack No-Lead, Body 6 x 6 mm, Pitch 0.5 mm; Supplier 1: Digi-Key; Supplier Part Number 1: DAC7716SRHAR-ND; Supplier 2: Mouser; Supplier Part Number 2: 595-DAC7716SRHAR; Eco-Plan: Green (RoHS & no Sb/Br); INL(Max)(+/-LSB): 1; Mounting Technology: Surface Mount; Code_JEDEC: MO-220; ComponentLink1Description: Manufacturer URL; ComponentLink1URL: http://www.ti.com/; ComponentLink2Description: Datasheet; ComponentLink2URL: http://www.ti.com/general/docs/lit/getliterature.tsp?genericPartNumber=DAC7716&fileType=pdf; ComponentLink3Description: Package Specification; ComponentLink3URL: http://www.ti.com/litv/pdf/mpqf135c
footprint TI-RHA40-4500X4500TP_V (QFN, 40-Leads, Body 6x6mm, Pitch 0.5mm, Thermal Pad 4.5x4.5mm)
part A pins: 1 ~{CS} (in) "SPI bus chip select input (active low). Data are not clocked into the SPI shift register unless C\S\ is low. When C\S\ is high, SDO is in a high-impedance state.", 2 SCLK (in) "SPI bus clock", 3 SDI (in) "SPI bus input data", 4 SDO (hiz) "SPI output data", 5 ~{LDAC} (in) "Load DAC latch control input (active low). When L\D\A\C\ is low, the DAC latch is transparent and the contents of the Input Data Register are transferred to it. The DAC output changes to the corresponding level (See Datasheet)", 6 ~{RST} (in) "Reset input (active low). Logic low on this pin resets the input registers and DACs to the values defined by the UNI/BIP pins, and sets the Gain Register and Zero Register to default values.", 7 GPIO-0 (io) "General-purpose digital input/output 0. This pin is a bidirectional, digital input/output, and has an open-drain output. A 10kO pull-up resistor to IOVDD is needed when this pin is used as an output. See the GPIO Pins (See Datasheet)", 8 GPIO-1 (io) "General-purpose digital input/output 1. This pin is a bidirectional, digital input/output, and has an open-drain output. A 10kO pull-up resistor to IOVDD is needed when this pin is used as an output. See the GPIO Pins (See Datasheet)", 9 UNI/BIP-A (in) "Output mode selection of group A (DAC-0 and DAC-1). When UNI/BIP-A is tied to IOVDD, group A is in unipolar output mode; when tied to DGND, group A is in bipolar output mode. The input data written to the DAC are straight (See Datasheet)", 13 VOUT-0 (out) "DAC-0 output", 14 RFB2-0 (in) "DAC-0 RFB2 feedback", 15 RFB1-0 (in) "DAC-0 RFB1 feedback", 18 RFB1-1 (in) "DAC-1 RFB1 feedback", 19 RFB2-1 (in) "DAC-1 RFB2 feedback", 20 VOUT-1 (out) "DAC-1 output", 25 REF-A (in) "Group A (DAC-0, DAC-1) reference input", 26 REF-B (in) "Group B (DAC-2, DAC-3) reference input", 29 VMON (hiz) "Analog monitor output. This pin is either in Hi-Z status, or connected to one of the four DAC outputs or AIN, depending on the content of the Monitor Register.", 31 VOUT-3 (out) "DAC-3 output", 32 RFB2-3 (in) "DAC-3 RFB2 feedback", 33 RFB1-3 (in) "DAC-3 RFB1 feedback", 36 RFB1-2 (in) "DAC-2 RFB1 feedback", 37 RFB2-2 (in) "DAC-2 RFB2 feedback", 38 VOUT-2 (out) "DAC-2 output", 39 AIN (in) "Auxiliary analog input. Connected to the analog monitor mux.", 40 UNI/BIP-B (in) "Output mode selection of group B (DAC-2 and DAC-3). When UNI/BIP-A is tied to IOVDD, group B is in unipolar output mode; when tied to DGND, group B is in bipolar output mode. The input data written to the DAC are straight (See Datasheet)"
part B pins: 10 DGND (power) "Digital ground", 11 IOVDD (power) "Interface power", 12 DVDD (power) "Digital power", 16 SGND-0 (power) "DAC-0 signal ground. Connected to REFGND-A.", 17 SGND-1 (power) "DAC-1 signal ground. Connected to REFGND-A.", 21 AVDD (power) "Positive analog power supply", 22 AGND (power) "Analog ground", 23 AVSS (power) "Negative analog power supply", 24 REFGND-A (power) "Reference REF-A ground. Connect to AGND.", 27 REFGND-B (power) "Reference REF-B ground. Connect to AGND.", 28 AVSS (power) "Negative analog power supply", 30 AVDD (power) "Positive analog power supply", 34 SGND-3 (power) "DAC-3 signal ground. Connected to REFGND-B.", 35 SGND-2 (power) "DAC-2 signal ground. Connected to REFGND-B.", 41 EP "The thermal pad is internally connected to the substrate. This pad can be connected to AVSS or left floating."

## DAC7716SRHAT
designator U?
Quad 12-Bit High Accuracy +/- 16.5 V Output Serial Input DAC, -40 to 105 degC, 40-pin QFN (RHA40), Green (RoHS & no Sb/Br); Manufacturer: Texas Instruments; PartNumber: DAC7716SRHAT; DAC Channels: 4; DNL(Max)(+/-LSB): 1; Interface: Serial SPI; Power Consumption(Typ)(mW): 290; Resolution(Bits): 12; Settling Time(us): 6; SubFamily: Precision DAC (=<10MSPS); DatasheetVersion: SBAS463A; PackageVersion: 4204276/E, 06/2011; PackageReference: RHA40-4500X4500TP; PackageDescription: 40-Pin Plastic Quad Flatpack No-Lead, Body 6 x 6 mm, Pitch 0.5 mm; Supplier 1: Digi-Key; Supplier Part Number 1: 296-25114-2-ND; Supplier 2: Digi-Key; Supplier Part Number 2: 296-25114-1-ND; Supplier 3: Digi-Key; Supplier Part Number 3: 296-25114-6-ND; Supplier 4: Mouser; Supplier Part Number 4: 595-DAC7716SRHAT; Eco-Plan: Green (RoHS & no Sb/Br); INL(Max)(+/-LSB): 1; Mounting Technology: Surface Mount; Code_JEDEC: MO-220; ComponentLink1Description: Manufacturer URL; ComponentLink1URL: http://www.ti.com/; ComponentLink2Description: Datasheet; ComponentLink2URL: http://www.ti.com/general/docs/lit/getliterature.tsp?genericPartNumber=DAC7716&fileType=pdf; ComponentLink3Description: Package Specification; ComponentLink3URL: http://www.ti.com/litv/pdf/mpqf135c
footprint TI-RHA40-4500X4500TP_V (QFN, 40-Leads, Body 6x6mm, Pitch 0.5mm, Thermal Pad 4.5x4.5mm)
part A pins: 1 ~{CS} (in) "SPI bus chip select input (active low). Data are not clocked into the SPI shift register unless C\S\ is low. When C\S\ is high, SDO is in a high-impedance state.", 2 SCLK (in) "SPI bus clock", 3 SDI (in) "SPI bus input data", 4 SDO (hiz) "SPI output data", 5 ~{LDAC} (in) "Load DAC latch control input (active low). When L\D\A\C\ is low, the DAC latch is transparent and the contents of the Input Data Register are transferred to it. The DAC output changes to the corresponding level (See Datasheet)", 6 ~{RST} (in) "Reset input (active low). Logic low on this pin resets the input registers and DACs to the values defined by the UNI/BIP pins, and sets the Gain Register and Zero Register to default values.", 7 GPIO-0 (io) "General-purpose digital input/output 0. This pin is a bidirectional, digital input/output, and has an open-drain output. A 10kO pull-up resistor to IOVDD is needed when this pin is used as an output. See the GPIO Pins (See Datasheet)", 8 GPIO-1 (io) "General-purpose digital input/output 1. This pin is a bidirectional, digital input/output, and has an open-drain output. A 10kO pull-up resistor to IOVDD is needed when this pin is used as an output. See the GPIO Pins (See Datasheet)", 9 UNI/BIP-A (in) "Output mode selection of group A (DAC-0 and DAC-1). When UNI/BIP-A is tied to IOVDD, group A is in unipolar output mode; when tied to DGND, group A is in bipolar output mode. The input data written to the DAC are straight (See Datasheet)", 13 VOUT-0 (out) "DAC-0 output", 14 RFB2-0 (in) "DAC-0 RFB2 feedback", 15 RFB1-0 (in) "DAC-0 RFB1 feedback", 18 RFB1-1 (in) "DAC-1 RFB1 feedback", 19 RFB2-1 (in) "DAC-1 RFB2 feedback", 20 VOUT-1 (out) "DAC-1 output", 25 REF-A (in) "Group A (DAC-0, DAC-1) reference input", 26 REF-B (in) "Group B (DAC-2, DAC-3) reference input", 29 VMON (hiz) "Analog monitor output. This pin is either in Hi-Z status, or connected to one of the four DAC outputs or AIN, depending on the content of the Monitor Register.", 31 VOUT-3 (out) "DAC-3 output", 32 RFB2-3 (in) "DAC-3 RFB2 feedback", 33 RFB1-3 (in) "DAC-3 RFB1 feedback", 36 RFB1-2 (in) "DAC-2 RFB1 feedback", 37 RFB2-2 (in) "DAC-2 RFB2 feedback", 38 VOUT-2 (out) "DAC-2 output", 39 AIN (in) "Auxiliary analog input. Connected to the analog monitor mux.", 40 UNI/BIP-B (in) "Output mode selection of group B (DAC-2 and DAC-3). When UNI/BIP-A is tied to IOVDD, group B is in unipolar output mode; when tied to DGND, group B is in bipolar output mode. The input data written to the DAC are straight (See Datasheet)"
part B pins: 10 DGND (power) "Digital ground", 11 IOVDD (power) "Interface power", 12 DVDD (power) "Digital power", 16 SGND-0 (power) "DAC-0 signal ground. Connected to REFGND-A.", 17 SGND-1 (power) "DAC-1 signal ground. Connected to REFGND-A.", 21 AVDD (power) "Positive analog power supply", 22 AGND (power) "Analog ground", 23 AVSS (power) "Negative analog power supply", 24 REFGND-A (power) "Reference REF-A ground. Connect to AGND.", 27 REFGND-B (power) "Reference REF-B ground. Connect to AGND.", 28 AVSS (power) "Negative analog power supply", 30 AVDD (power) "Positive analog power supply", 34 SGND-3 (power) "DAC-3 signal ground. Connected to REFGND-B.", 35 SGND-2 (power) "DAC-2 signal ground. Connected to REFGND-B.", 41 EP "The thermal pad is internally connected to the substrate. This pad can be connected to AVSS or left floating."

## DAC7718SPAG
designator U?
Octal, Low Power, 12-Bit, +/- 16.5 V Output Serial Input DAC, -40 to 85 degC, 64-pin QFP (PAG64), Green (RoHS & no Sb/Br); Manufacturer: Texas Instruments; PartNumber: DAC7718SPAG; DAC Channels: 8; DNL(Max)(+/-LSB): 1; Interface: Serial SPI; Power Consumption(Typ)(mW): 115; Resolution(Bits): 12; Settling Time(us): 10; SubFamily: Precision DAC (=<10MSPS); DatasheetVersion: SBAS361A; PackageVersion: 4040282/C, 11/1996; PackageReference: PAG64; PackageDescription: 64-Pin Plastic Flat Pack, Body 10 x 10 mm, Pitch 0.50 mm; Supplier 1: Digi-Key; Supplier Part Number 1: 296-27421-5-ND; Supplier 2: Mouser; Supplier Part Number 2: 595-DAC7718SPAG; Eco-Plan: Green (RoHS & no Sb/Br); INL(Max)(+/-LSB): 1; Mounting Technology: Surface Mount; Code_JEDEC: MS-026; ComponentLink1Description: Manufacturer URL; ComponentLink1URL: http://www.ti.com/; ComponentLink2Description: Datasheet; ComponentLink2URL: http://www.ti.com/general/docs/lit/getliterature.tsp?genericPartNumber=DAC7718&fileType=pdf; ComponentLink3Description: Package Specification; ComponentLink3URL: http://www.ti.com/lit/ml/mtqf006a/mtqf006a.pdf
footprint TI-PAG64_N (QFP, 64-Leads, Body 10x10mm, Pitch 0.5mm, IPC Medium Density)
footprint TI-PAG64_L (QFP, 64-Leads, Body 10x10mm, Pitch 0.5mm, IPC High Density)
footprint TI-PAG64_M (QFP, 64-Leads, Body 10x10mm, Pitch 0.5mm, IPC Low Density)
part A pins: 3 AIN-0 (in) "Auxiliary analog input 0, directly routed to the analog mux", 4 VOUT-3 (out) "DAC-3 output", 5 REF-A (in) "Group A(1) reference input", 6 VOUT-2 (out) "DAC-2 output", 7 VOUT-1 (out) "DAC-1 output", 10 OFFSET-A (out) "OFFSET DAC-A analog output. Must be connected to AGND-A during single power-supply operation (AVSS = 0V). This pin is not intended to drive an external load.", 11 VOUT-0 (out) "DAC-0 output", 14 VMON (hiz) "Analog monitor output. This pin is either in Hi-Z status, connected to one of the eight DAC outputs, reference buffer outputs, offset DAC outputs, or one of the auxiliary analog inputs, depending on the content of the (See Datasheet)", 19 GPIO-2 (io) "General-purpose digital input/output 2. This pin is a bidirectional digital input/output, open-drain and requires an external pull-up resistor. See the GPIO Pins section for details.", 20 ~{CLR} (in) "Clear input, level triggered. When the C\L\R\ pin is logic '0', all VOUT-X pins connect to AGND-x through switches and internal low-impedance. When the C\L\R\ pin is logic '1', all VOUT-X pins connect to the amplifier (See Datasheet)", 21 ~{RST} (in) "Reset input (active low). Logic low on this pin resets the DAC registers and DACs to the values defined by the RSTSEL pin. C\S\ must be logic high when R\S\T\ is active.", 29 GPIO-1 (io) "General-purpose digital input/output 1. This pin is a bidirectional digital input/output, open-drain and requires an external resistor. See the GPIO Pins section for details.", 30 GPIO-0 (io) "General-purpose digital input/output 0. This pin is a bidirectional digital input/output, open-drain and requires an external resistor. See the GPIO Pins section for details.", 38 VOUT-7 (out) "DAC-7 output", 39 OFFSET-B (out) "OFFSET DAC-B analog output. Must be connected to AGND-B during single-supply operation (AVSS = 0V).", 42 VOUT-6 (out) "DAC-6 output", 43 VOUT-5 (out) "DAC-5 output", 44 REF-B (in) "Group B reference input", 45 VOUT-4 (out) "DAC-4 output", 46 AIN-1 (in) "Auxiliary analog input 1, directly routed to the analog mux", 50 ~{USB}/BTC (in) "Data format selection of Input DAC data and Offset DAC data. Data are in straight binary format when connected to DGND or in twos complement format when connected to IOVDD. The command data are always in straight binary (See Datasheet)", 51 RSTSEL (in) "Output reset selection. Selects the output voltage on the VOUT pin after power-on or hardware reset. Refer to the Power-On Reset section for details.", 57 SCLK (in) "SPI bus serial clock input", 58 ~{CS} (in) "SPI bus chip select input (active low). Data are not clocked into SDI unless C\S\ is low. When C\S\ is high, SDO is in a high-impedance state and the SCLK and SDI signals are blocked from the device.", 59 SDI (in) "SPI bus serial data input", 61 SDO (hiz) "SPI bus serial data output. When the DSDO bit = '0', the SDO pin works as an output in normal operation. When the DSDO bit = '1', SDO is always in a Hi-Z state, regardless of the C\S\ pin status. Refer to the Timing Diagrams (See Datasheet)", 62 ~{LDAC} (in) "Load DAC latch control input (active low). When L\D\A\C\ is low, the DAC latch is transparent and the contents of the DAC Data Register are transferred to it. The DAC output changes to the corresponding level simultaneously (See Datasheet)", 63 ~{WAKEUP} (in) "Wake-up input (active low). Restores the SPI from sleep to normal operation. See the Daisy-Chain Operation section for details."
part B pins: 1 AVDD (power) "Positive analog power supply", 8 AGND-A (power) "Group A analog ground and the ground of REF-A. This pin must be tied to AGND-B and DGND.", 9 AGND-A (power) "Group A analog ground and the ground of REF-A. This pin must be tied to AGND-B and DGND.", 12 AVSS (power) "Negative analog power supply", 24 DVDD (power) "Digital power supply", 25 DGND (power) "Digital ground", 28 DGND (power) "Digital ground", 37 AVSS (power) "Negative analog power supply", 40 AGND-B (power) "Group B(1) analog ground and the ground of REF-B. This pin must be tied to AGND-A and DGND.", 41 AGND-B (power) "Group B analog ground and the ground of REF-B. This pin must be tied to AGND-A and DGND.", 48 AVDD (power) "Positive analog power supply", 54 DGND (power) "Digital ground", 55 IOVDD (power) "Interface power", 56 DVDD (power) "Digital power supply"
part C pins: 2 NC "Not connected", 13 NC "Not connected", 15 NC "Not connected", 16 NC "Not connected", 17 NC "Not connected", 18 NC "Not connected", 22 NC "Not connected", 23 NC "Not connected", 26 NC "Not connected", 27 NC "Not connected", 31 NC "Not connected", 32 NC "Not connected", 33 NC "Not connected", 34 NC "Not connected", 35 NC "Not connected", 36 NC "Not connected", 47 NC "Not connected", 49 NC "Not connected", 52 NC "Not connected", 53 NC "Not connected", 60 NC "Not connected", 64 NC "Not connected"